# Altium schematic symbol library compact_v2-5.SchLib: 12 symbols
Pins are listed as number, name and electrical type; pins without a type are passive.

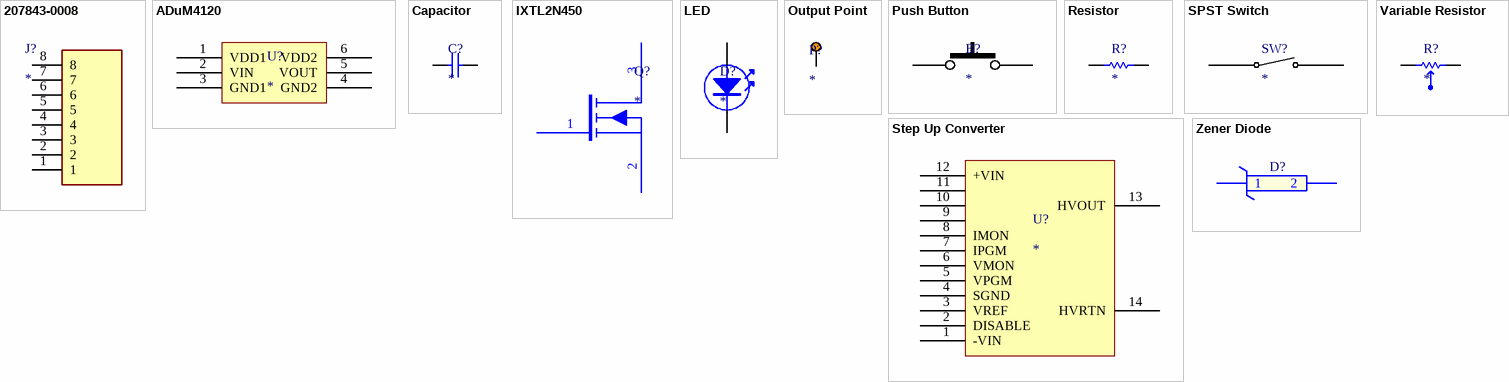
[diagram p0: symbols 207843-0008 to Zener Diode]

## 207843-0008
designator J?
1x8 Header; Manufacturer_Name: Molex; Manufacturer_Part_Number: 207843-0008; Datasheet Link: https://www.molex.com/pdm_docs/sd/2078430008_sd.pdf; Height: 6.95mm; Mouser Part Number: 538-207843-0008; Mouser Price/Stock: https://www.mouser.co.uk/ProductDetail/Molex/207843-0008?qs=XeJtXLiO41QJV3n1oae5pg%3D%3D
footprint 1x8 Molex Header - Female (CONN_171856-0008_MOL)
pins: 1, 2, 3, 4, 5, 6, 7, 8

## ADuM4120
designator U?
Gate Driver
footprint Gate Driver (ADuM4120)
pins: 1 VDD1 (power), 2 VIN, 3 GND1 (power), 4 GND2 (power), 5 VOUT, 6 VDD2 (power)

## Capacitor
designator C?
footprint HV Capacitor (SV17_AVX)
footprint 10uF Cer SMD (CAP_CL31_SAM)
footprint 0.1uF Cer SMD (CAPC2012X94N)
pins: 1, 2

## IXTL2N450
designator Q?
N-Channel MOSFET
footprint MOSFET
pins: 1 G, 2 S, 3 D

## LED
designator D?
pins: 1, 2

## Output Point
designator P?
Thru hole via
footprint Via
footprint 5013 (TESTPOINT_5013)
pins: 1

## Push Button
designator B?
pins: 1, 2

## Resistor
designator R?
footprint 4.99 Ohm (RESC3116X65N)
footprint 10M Ohm (OH_MOX910_OHM)
footprint 330 Ohm (RESC1508X55N)
footprint HV RESISTOR
footprint 180 Ohm (RESC1005X40N)
pins: 1, 2

## SPST Switch
designator SW?
pins: 1, 2

## Step Up Converter
designator U?
HRL30
footprint Step Up Converter (HRL30)
pins: 1 -VIN, 2 DISABLE, 3 VREF, 4 SGND, 5 VPGM, 6 VMON, 7 IPGM, 8 IMON, 9, 10, 11, 12 +VIN, 13 HVOUT, 14 HVRTN

## Variable Resistor
designator R?
(There's a better model)
pins: 1, 2

## Zener Diode
designator D?
KDZVTR16B; Vendor: ROHM Semiconductor; Built_By: EMA_Matt; SourceLibrary: Rohm_2019-09-23; Type: DEV; Manufacturer_Part_Number: KDZVTR16B; Copyright: Copyright (C) 2018 Accelerated Designs. All rights reserved; RefDes: RefDes
footprint Zener Diode (KDZVTR16B)
pins: 1, 2